# EAGLE library part RESISTOR-NET-8P (library MOD-libCMU-ArtFab)
CTS 742 Series 16 Terminations, 8 Resistors
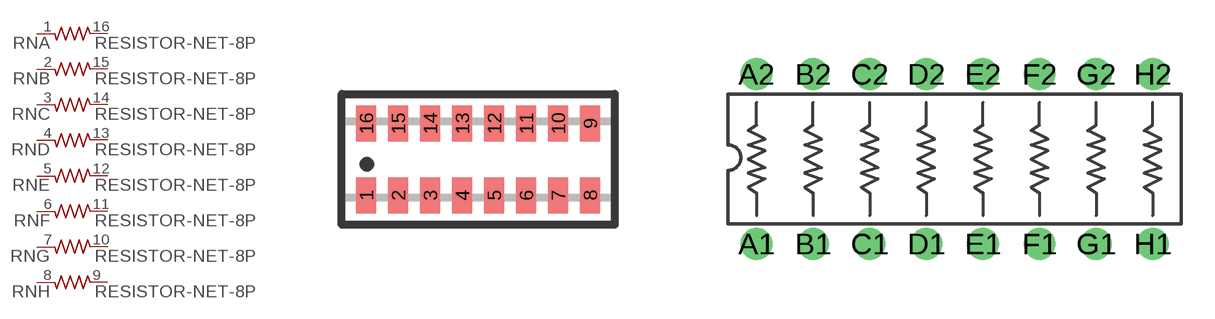
[diagram p1: symbol with the pads of 742-16; footprints 742-16, RESISTOR-NET-8P-DIL16]

Designator prefix RN; gates A=R1NV B=R1NV C=R1NV D=R1NV E=R1NV F=R1NV G=R1NV H=R1NV

## RESISTOR-NET-8P  [742-16]
1  A:1  pas
2  B:1  pas
3  C:1  pas
4  D:1  pas
5  E:1  pas
6  F:1  pas
7  G:1  pas
8  H:1  pas
9  H:2  pas
10  G:2  pas
11  F:2  pas
12  E:2  pas
13  D:2  pas
14  C:2  pas
15  B:2  pas
16  A:2  pas

## RESISTOR-NET-8PDIL16  [RESISTOR-NET-8P-DIL16]
A1  A:1  pas
A2  A:2  pas
B1  B:1  pas
B2  B:2  pas
C1  C:1  pas
C2  C:2  pas
D1  D:1  pas
D2  D:2  pas
E1  E:1  pas
E2  E:2  pas
F1  F:1  pas
F2  F:2  pas
G1  G:1  pas
G2  G:2  pas
H1  H:1  pas
H2  H:2  pas

## RESISTOR-NET-8PNS  [742-16NS]
Pads as for 742-16

## Footprint 742-16 (pad centres in mm)
CTS 742 Series 16 Terminations, 8 Resistors
smd 0.5 x 0.9: 1 -2.8,-0.9; 2 -2,-0.9; 3 -1.2,-0.9; 4 -0.4,-0.9; 5 0.4,-0.9; 6 1.2,-0.9; 7 2,-0.9; 8 2.8,-0.9; 9 2.8,0.9; 10 2,0.9; 11 1.2,0.9; 12 0.4,0.9; 13 -0.4,0.9; 14 -1.2,0.9; 15 -2,0.9; 16 -2.8,0.9

## Footprint RESISTOR-NET-8P-DIL16 (pad centres in mm)
drill 0.813 pad 1.422: A1 -8.89,-3.81; A2 -8.89,3.81; B1 -6.35,-3.81; B2 -6.35,3.81; C1 -3.81,-3.81; C2 -3.81,3.81; D1 -1.27,-3.81; D2 -1.27,3.81; E1 1.27,-3.81; E2 1.27,3.81; F1 3.81,-3.81; F2 3.81,3.81; G1 6.35,-3.81; G2 6.35,3.81; H1 8.89,-3.81; H2 8.89,3.81

## Footprint 742-16NS (pad centres in mm)
CTS 742 Series 16 Terminations, 8 Resistors
smd 0.5 x 0.9: 1 -2.8,-0.9; 2 -2,-0.9; 3 -1.2,-0.9; 4 -0.4,-0.9; 5 0.4,-0.9; 6 1.2,-0.9; 7 2,-0.9; 8 2.8,-0.9; 9 2.8,0.9; 10 2,0.9; 11 1.2,0.9; 12 0.4,0.9; 13 -0.4,0.9; 14 -1.2,0.9; 15 -2,0.9; 16 -2.8,0.9